# Altium footprint library SSW-101-01-T-S.PcbLib: 1 footprints
Each footprint in its own frame and in the unit in brackets; x right, y up, seen from the top. Pads: shape width x height; smd on the part's side, far side on the other; paste and mask are expansions set on the pad; w line width, h text height; cw(c..) or ccw(c..) is an arc to the next point about the centre after c.
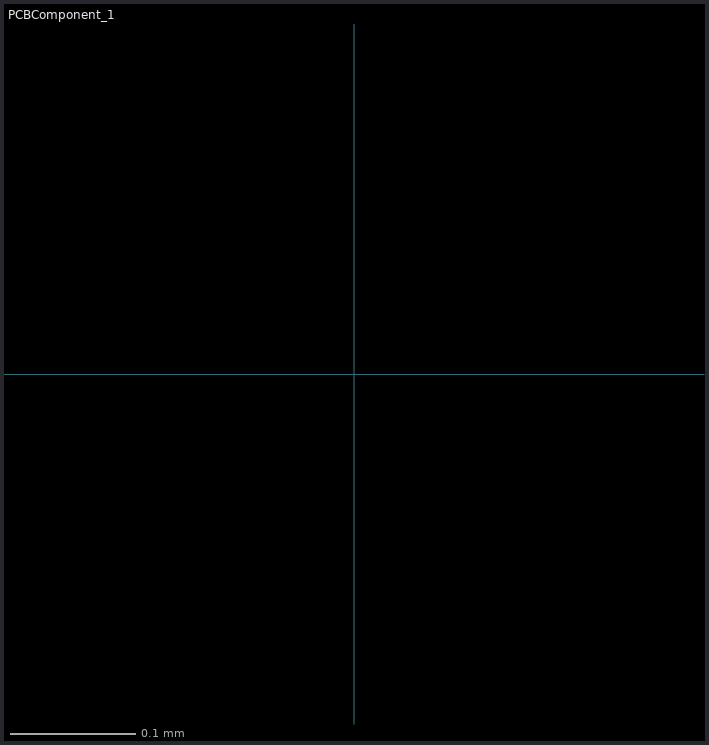
[diagram p0: the footprint, top view; thin cyan lines are the x and y axes]

## PCBComponent_1 [mm]
pads (1):
  round 0 all layers, no hole: 40(0,0)
3D body "SSW-101-01-T-S.stp": height 8.51, standoff -2.64, extent -1.524,-1.206 1.524,1.206